# Altium schematic symbol library L4931CZ50.SchLib: 1 symbol
Pins are listed as number, name and electrical type; pins without a type are passive.

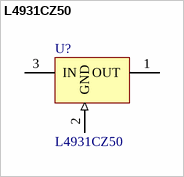
[diagram p0: symbol L4931CZ50]

## L4931CZ50
designator U?
3-Terminal Adjustable Regulator; Part Field 1: LDO Regulator IC; PartNumber: L4931CZ50-AP; Part Field 3: TO92; Part Field 4: ST Micro; Part Field 5: L4931CZ50; Part Field 2: 3-Terminal, fixed; Part Field 6: CMW#; Part Field 7: $0.73
footprint TO-92-3
footprint TO-92-3
pins: 1 OUT (power), 2 GND (in), 3 IN (power)